# Altium schematic symbol library SW_PSHBT_SPST_2.SchLib: 1 symbol
Pins are listed as number, name and electrical type; pins without a type are passive.

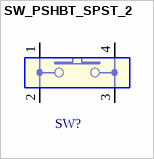
[diagram p0: symbol SW_PSHBT_SPST_2]

## SW_PSHBT_SPST_2
designator SW?
SW SP PB 50mA 16V SMT
pins: 1, 2, 3, 4